# Altium integrated library Charging_regulation.IntLib: 18 symbols
Pins are listed as number, name and electrical type; pins without a type are passive.

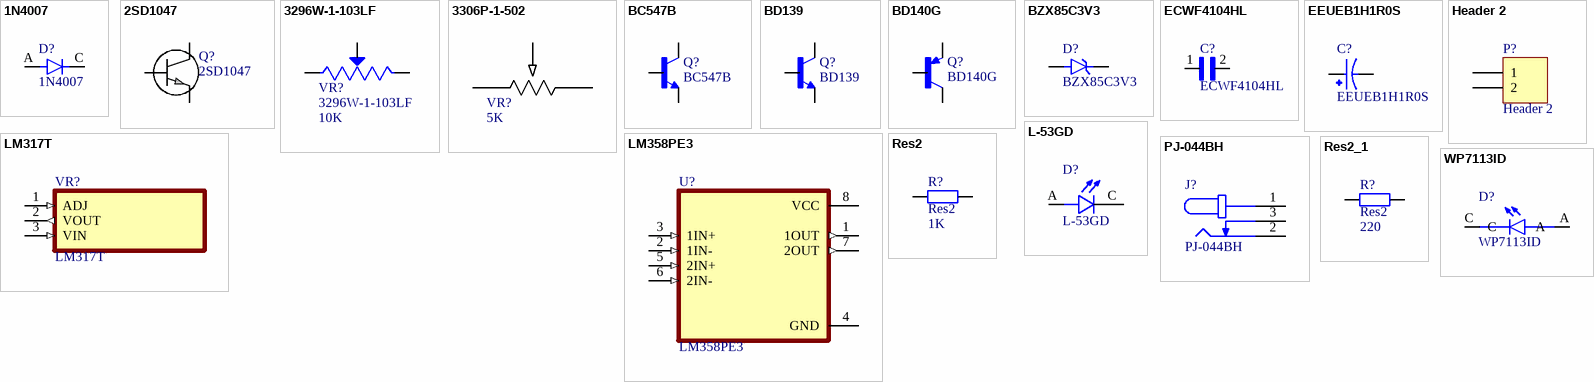
[diagram p0: symbols 1N4007 to WP7113ID]

## 1N4007
designator D?
Diode Standard 1000 V 1A Through Hole DO-41; MF: NTE Electronics, Inc.; Package: DO-41 NTE Electronics; Check_prices: https://www.snapeda.com/parts/1N4007/NTE+Electronics/view-part/?ref=eda; Value: *; Purchase-URL: https://pricing.snapeda.com/search/part/1N4007/?ref=eda; Availability: In Stock; SnapEDA_Link: https://www.snapeda.com/parts/1N4007/NTE+Electronics/view-part/?ref=snap; MP: 1N4007; Price: None
footprint DIOAD1060W80L520D270
pins: A, C

## 2SD1047
designator Q?
Bipolar (BJT) Transistor NPN 140 V 12 A 20MHz 100 W Through Hole TO-3P; Mfr_Name: STMicroelectronics
footprint TO-3P_STM
pins: 1 B, 2 C, 3 E

## 3296W-1-103LF
designator VR?  value 10K
10 kOhms 0.5W, 1/2W PC Pins Through Hole Trimmer Potentiometer Cermet 25.0 Turn Top Adjustment; MF: Bourns; SnapEDA_Link: https://www.snapeda.com/parts/3296W-1-103LF/Bourns/view-part/?ref=snap; MP: 3296W-1-103LF; Price: None; Package: SOT-23-5 Bourns; Check_prices: https://www.snapeda.com/parts/3296W-1-103LF/Bourns/view-part/?ref=eda; Purchase-URL: https://pricing.snapeda.com/search/part/3296W-1-103LF/?ref=eda; Availability: In Stock
footprint TRIM_3296W-1-103LF
pins: 1 CCW, 2 WIPER, 3 CW

## 3306P-1-502
designator VR?  value 5K  (hidden comment: 3306P-1-502)
5 kOhms 0.2W, 1/5W PC Pins Through Hole Trimmer Potentiometer Cermet 1.0 Turn Top Adjustment; Manufacturer: Bourns Electronics
footprint POT_3306P
pins: 1, 2, 3

## BC547B
designator Q?
Bipolar (BJT) TransistÃ¶r NPN 45 V 100 mA 300MHz 625 mW Delikten TO-92 (TO-226); MF: ON Semiconductor; SnapEDA_Link: https://www.snapeda.com/parts/BC547B/Onsemi/view-part/?ref=snap; MP: BC547B; Availability: In Stock; Price: None; Value: *; Check_prices: https://www.snapeda.com/parts/BC547B/Onsemi/view-part/?ref=eda; Package: TO-92-3 ON Semiconductor; Purchase-URL: https://pricing.snapeda.com/search/part/BC547B/?ref=eda
footprint TO92250P510H770-3
pins: 1 C, 2 B, 3 E

## BD139
designator Q?
Bipolar BJT Transistor NPN 80V 1.5A 1.25W Through Hole TO-225AA; MF: ON Semiconductor; Value: *; Price: None; Package: TO-126-3 Continental Device; SnapEDA_Link: https://www.snapeda.com/parts/BD139/ON%20Semiconductor/view-part/2781881/?ref=snap; Availability: Unavailable; MP: BD139
footprint TO126
pins: B, C, C2, E

## BD140G
designator Q?
Bipolar (BJT) Transistor PNP 80 V 1.5 A - 1.25 W Through Hole TO-126; MF: ON Semiconductor; Availability: In Stock; Purchase-URL: https://pricing.snapeda.com/search/part/BD140G/?ref=eda; Package: TO-225-3 ON Semiconductor; Check_prices: https://www.snapeda.com/parts/BD140G/Onsemi/view-part/?ref=eda; SnapEDA_Link: https://www.snapeda.com/parts/BD140G/Onsemi/view-part/?ref=snap; MP: BD140G; Price: None; Value: *
footprint TO245P780X300X1364-3
pins: 1 E, 2 C, 3 B

## BZX85C3V3
designator D?
MP: BZX85C3V3; Availability: Unavailable; Price: None; Value: *; Package: None
footprint DIOAD1036W73L450D282
pins: A, C K

## ECWF4104HL
designator C?
MP: ECWF4104HL; Price: None; Availability: Unavailable; Value: *; Package: None
footprint CAPRR1250W80L1550T650H1100
pins: 1, 2

## EEUEB1H1R0S
designator C?
CAP ALUM 1UF 20% 50V RADIAL; MF: Panasonic; Value: *; MP: EEUEB1H1R0S; Package: RADIAL-2 Panasonic; Availability: Not in stock; Price: None; SnapEDA_Link: https://www.snapeda.com/parts/EEUEB1H1R0S/Panasonic/view-part/5782839/?ref=snap; Check_prices: https://www.snapeda.com/parts/EEUEB1H1R0S/Panasonic/view-part/5782839/?ref=eda
footprint CAPPRD200W50D500H1100
pins: N, P

## Header 2
designator P?
Header, 2-Pin; LatestRevisionDate: 17-Jul-2002; LatestRevisionNote: Re-released for DXP Platform.; Publisher: Altium Limited
footprint HDR1X2 (Connector; Header; 2 Position)
signal-integrity model Connector
pins: 1, 2

## L-53GD
designator D?
LED 5mm Green 568nm 20mcd/10mA 60Â°; MF: Kingbright; Value: *; Package: CDIP-28; Check_prices: https://www.snapeda.com/parts/L-53GD/Kingbright/view-part/?ref=eda; MP: L-53GD; Price: None; SnapEDA_Link: https://www.snapeda.com/parts/L-53GD/Kingbright/view-part/?ref=snap; Availability: Unavailable
footprint LEDRD254W50D500H1060
pins: A, C

## LM317T
designator VR?
1.5-A, 40-V, adjustable linear voltage regulator 3-TO-220; MF: Texas Instruments; Price: None; Availability: In Stock; Package: TO-220-3 Texas Instruments; MP: LM317T; Value: *; SnapEDA_Link: https://www.snapeda.com/parts/LM317T/Texas+Instruments/view-part/?ref=snap; Purchase-URL: https://pricing.snapeda.com/search/part/LM317T/?ref=eda; Check_prices: https://www.snapeda.com/parts/LM317T/Texas+Instruments/view-part/?ref=eda
footprint TO254P1054X470X1955-3
pins: 1 ADJ (in), 2 VOUT (out), 3 VIN (in)

## LM358PE3
designator U?
Value: *; MP: LM358PE3; Package: None; Availability: Unavailable; Price: None
footprint DIP794W45P254L959H508Q8
pins: 1 1OUT (out), 2 1IN- (in), 3 1IN+ (in), 4 GND (power), 5 2IN+ (in), 6 2IN- (in), 7 2OUT (out), 8 VCC (power)

## PJ-044BH
designator J?
2.5 mm Center Pin, 5.0 A, Vertical, Through Hole, Dc Power Jack Connector; Package: None; Price: None; Value: *; MP: PJ-044BH; Availability: Unavailable
footprint CUI_PJ-044BH
pins: 1, 2, 3

## Res2
designator R?  value 1K
Resistor; Published: 8-Jun-2000; LatestRevisionDate: 17-Jul-2002; LatestRevisionNote: Re-released for DXP Platform.; PackageReference: AXIAL-0.4; Publisher: Altium Limited; PackageDescription: Axial Device, Thru-Hole; 2 Leads; 0.4 in Pin Spacing
footprint AXIAL-0.4 (Axial Device, Thru-Hole; 2 Leads; 0.4 in Pin Spacing)
simulation model RESISTOR (Resistor)
signal-integrity model Res
pins: 1, 2

## Res2_1
designator R?, comment Res2  value 220
Resistor; Published: 8-Jun-2000; LatestRevisionDate: 17-Jul-2002; LatestRevisionNote: Re-released for DXP Platform.; PackageReference: AXIAL-0.4; Publisher: Altium Limited; PackageDescription: Axial Device, Thru-Hole; 2 Leads; 0.4 in Pin Spacing
footprint AXIAL-0.4 (Axial Device, Thru-Hole; 2 Leads; 0.4 in Pin Spacing)
simulation model RESISTOR (Resistor)
signal-integrity model Res
pins: 1, 2

## WP7113ID
designator D?
Red 617nm LED Indication - Discrete 2V Radial; MF: Kingbright; Price: None; MP: WP7113ID; Package: Radial Kingbright; Check_prices: https://www.snapeda.com/parts/WP7113ID/Kingbright/view-part/?ref=eda; Purchase-URL: https://pricing.snapeda.com/search/part/WP7113ID/?ref=eda; Availability: In Stock; Value: *; SnapEDA_Link: https://www.snapeda.com/parts/WP7113ID/Kingbright/view-part/?ref=snap
footprint LED_WP7113ID
pins: A, C